# EAGLE library part MFJ-5566-20 (library CalPolyUCV)
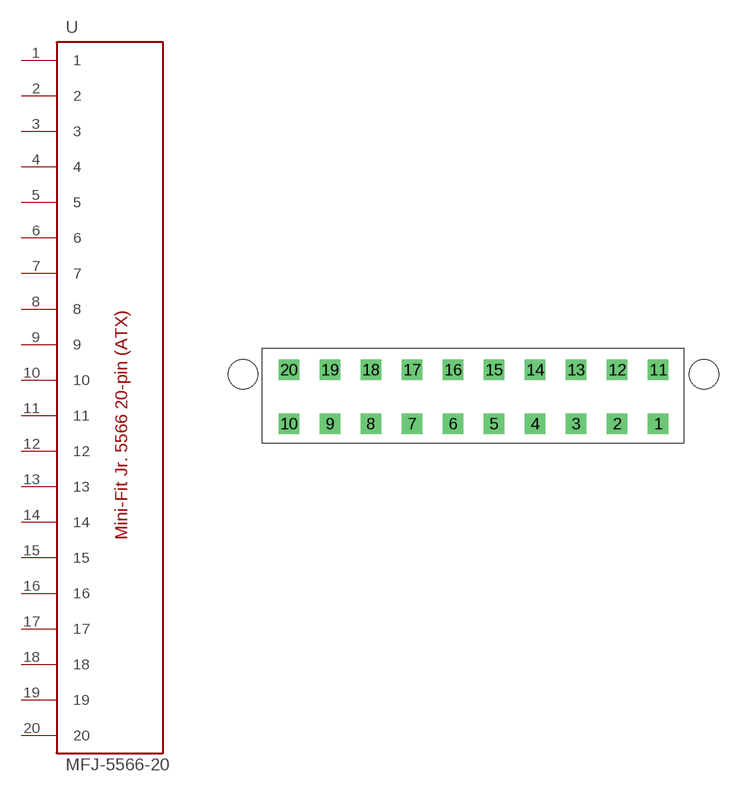
[diagram p1: symbol with the pads of MFJ-5566-20; footprint MFJ-5566-20]

Designator prefix -

## MFJ-5566-20  [MFJ-5566-20]
1  1
2  2
3  3
4  4
5  5
6  6
7  7
8  8
9  9
10  10
11  11
12  12
13  13
14  14
15  15
16  16
17  17
18  18
19  19
20  20

## Footprint MFJ-5566-20 (pad centres in mm)
drill 1.397 square: 1 18.923,-2.718; 2 14.732,-2.718; 3 10.541,-2.718; 4 6.35,-2.718; 5 2.159,-2.718; 6 -2.032,-2.718; 7 -6.223,-2.718; 8 -10.414,-2.718; 9 -14.605,-2.718; 10 -18.796,-2.718; 11 18.923,2.794; 12 14.732,2.794; 13 10.541,2.794; 14 6.35,2.794; 15 2.159,2.794; 16 -2.032,2.794; 17 -6.223,2.794; 18 -10.414,2.794; 19 -14.605,2.794; 20 -18.796,2.794
hole 2.997 at 23.622,2.337
hole 2.997 at -23.495,2.337